# Altium footprint library PDB_footprints.PcbLib: 17 footprints (part 1 of 2)
Each footprint in its own frame and in the unit in brackets; x right, y up, seen from the top. Pads: shape width x height; smd on the part's side, far side on the other; paste and mask are expansions set on the pad; w line width, h text height; cw(c..) or ccw(c..) is an arc to the next point about the centre after c.
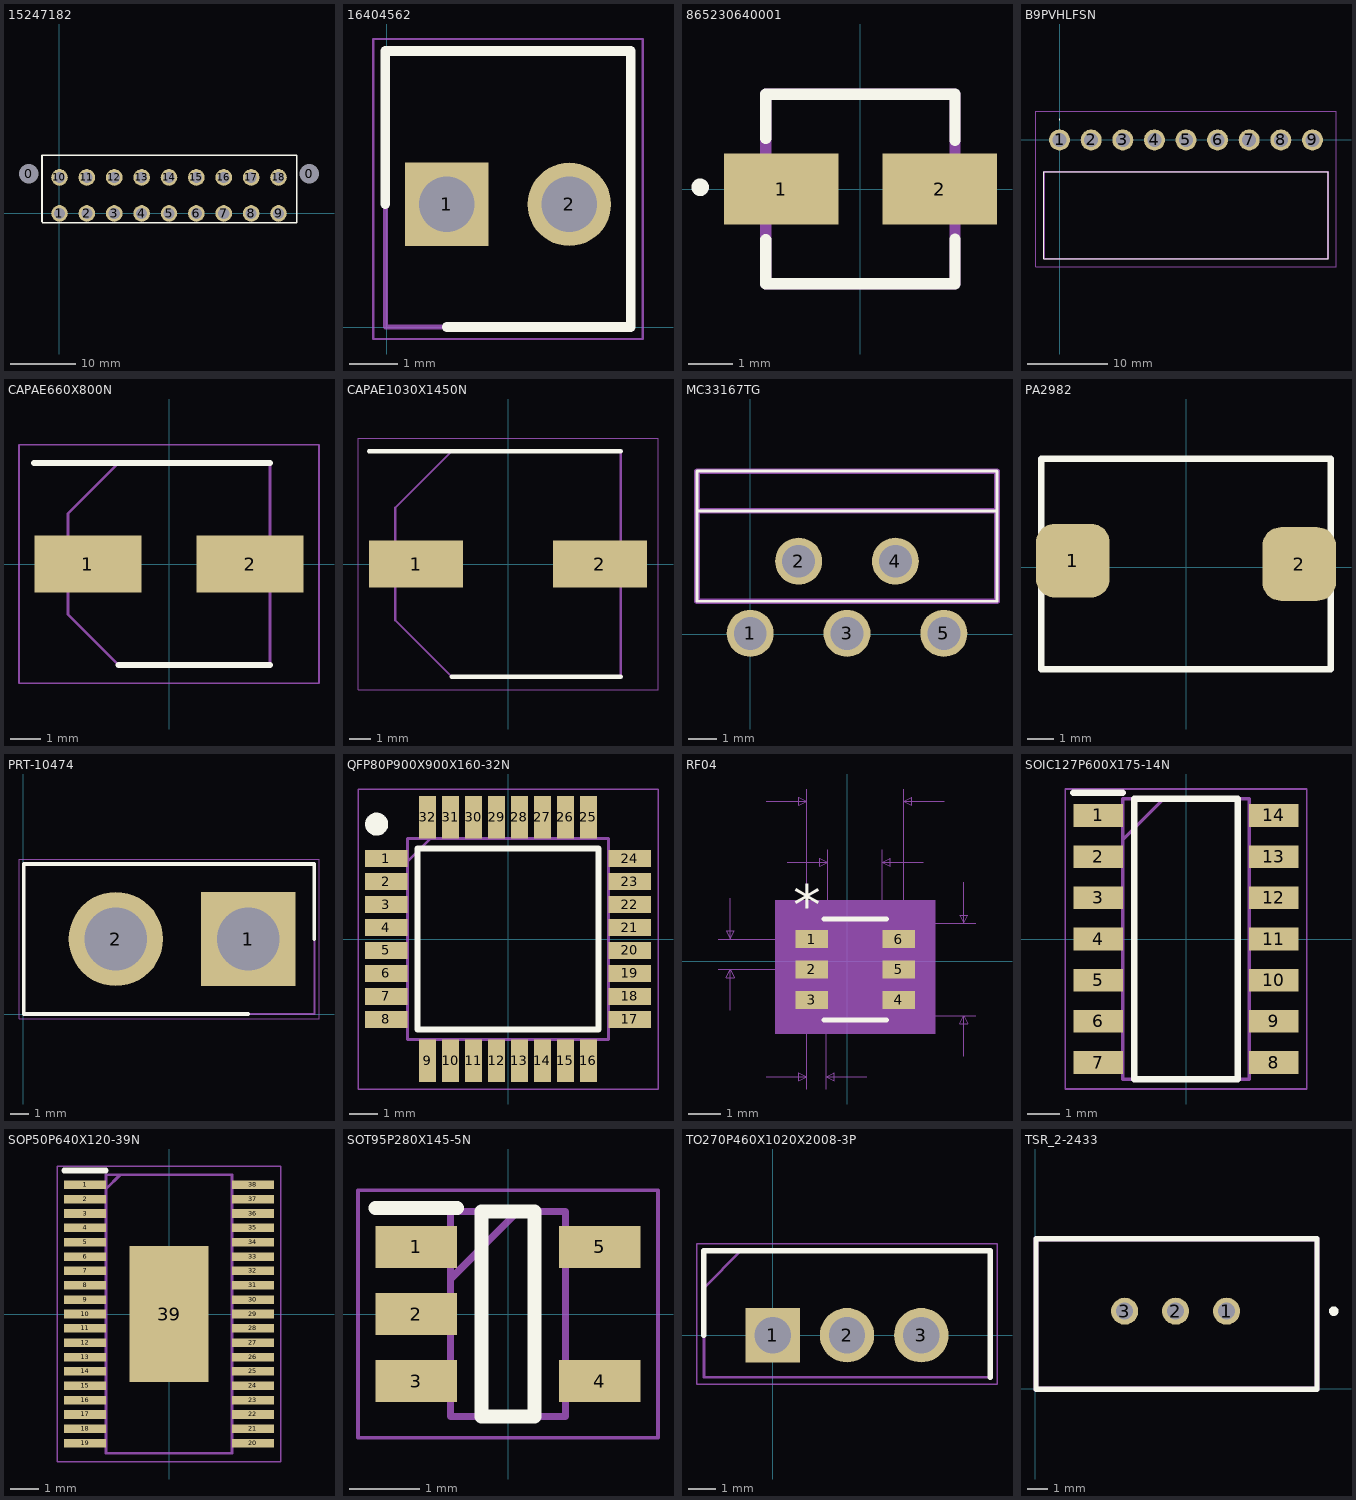
[diagram p0: the footprints below, top view; thin cyan lines are the x and y axes]

## 15247182 [mil]
pads (20):
  round 100 hole 118: 0(-185,239) 0(1505,239)
  round 100 hole 67: 1(0,0) 2(165,0) 3(330,0) 4(495,0) 5(660,0) 6(825,0) 7(990,0) 8(1155,0) 9(1320,0) 10(0,217) 11(165,217) 12(330,217) 13(495,217) 14(660,217) 15(825,217) 16(990,217) 17(1155,217) 18(1320,217)
Top Overlay:
  lines w10: -105,-50 -100,-55 278.75,-55 1046.25,-55 1430,-55 1430,350 -105,350 -105,-50
3D body "15247182.stp": height 450.39, standoff -133.46, extent -221.89,-42.95 1541.89,335

## 16404562 [mm]
pads (2):
  rect 1.725x1.725 hole 1.15: 1(1.245,2.552)
  round 1.725 hole 1.15: 2(3.785,2.552)
Top Overlay:
  lines w0.2: -0.025,2.552 -0.025,5.727 5.055,5.727 5.055,0.012 1.245,0.012
Mechanical 13:
  lines w0.1: -0.025,0.012 -0.025,5.727 5.055,5.727 5.055,0.012 -0.025,0.012
Mechanical 15:
  lines w0.05: -0.275,-0.238 -0.275,5.977 5.305,5.977 5.305,-0.238 -0.275,-0.238
3D body "640456-2.stp": height 10.03, standoff -3.56, extent 0.102,0.076 5.182,5.918

## 865230640001 [mm]
pads (2):
  rect 2.6x1.6 smd: 1(-1.8,0) 2(1.8,0)
Top Overlay:
  circle w0.254: c-3.637,0.039 r0.071
  lines w0.254: -2.15,-1.151 -2.15,-2.15 2.15,-2.15 2.15,-1.136 ; -2.15,1.143 -2.15,2.15 2.15,2.15 2.15,1.101
Mechanical 13:
  lines w0.254: -2.15,-2.15 2.15,-2.15 2.15,2.15 -2.15,2.15 -2.15,-2.15

## B9PVHLFSN [mm]
pads (9):
  round 2.625 hole 1.75: 1(0,0) 2(3.96,0) 3(7.92,0) 4(11.88,0) 5(15.84,0) 6(19.8,0) 7(23.76,0) 8(27.72,0) 9(31.68,0)
Top Overlay:
  lines w0.1: -1.95,-14.9 -1.95,-4 33.63,-4 33.63,-14.9 -1.95,-14.9 ; 0,2.5 cw(c0,2.55) 0,2.6 cw(c0,2.55) 0,2.5
Mechanical 13:
  lines w0.2: -1.95,-14.9 -1.95,-4 33.63,-4 33.63,-14.9 -1.95,-14.9
Mechanical 15:
  lines w0.1: -2.95,-15.9 -2.95,3.6 34.63,3.6 34.63,-15.9 -2.95,-15.9
3D body "B9P-VH_LF__SN_.stp": height 8.6, standoff -5, extent -1.915,-14.403 33.665,1.27

## CAPAE660X800N [mm]
pads (2):
  rect 3.5x1.85 smd: 1(-2.65,0) 2(2.65,0)
Top Overlay:
  lines w0.2: -4.4,3.3 3.3,3.3 ; -1.65,-3.3 3.3,-3.3
Mechanical 13:
  lines w0.1: -3.3,-1.65 -1.65,-3.3 3.3,-3.3 3.3,3.3 -1.65,3.3 -3.3,1.65 -3.3,-1.65
Mechanical 15:
  lines w0.05: -4.9,-3.9 -4.9,3.9 4.9,3.9 4.9,-3.9 -4.9,-3.9
3D body "UCV1V221MCL1GS.stp": height 8, standoff 0, extent -3.7,-3.4 3.7,3.4

## CAPAE1030X1450N [mm]
pads (2):
  rect 4.3x2.15 smd: 1(-4.2,0) 2(4.2,0)
Top Overlay:
  lines w0.2: -6.35,5.15 5.15,5.15 ; -2.575,-5.15 5.15,-5.15
Mechanical 13:
  lines w0.1: -5.15,-2.575 -2.575,-5.15 5.15,-5.15 5.15,5.15 -2.575,5.15 -5.15,2.575 -5.15,-2.575
Mechanical 15:
  lines w0.05: -6.85,-5.75 -6.85,5.75 6.85,5.75 6.85,-5.75 -6.85,-5.75
3D body "ULV2W7R5MNL1GS.stp": height 14.5, standoff 0, extent -5.65,-5.25 5.65,5.25

## MC33167TG [mm]
pads (5):
  round 1.65 hole 1.15: 1(-0.001,0.025) 2(1.701,2.565) 3(3.403,0.025) 4(5.105,2.565) 5(6.807,0.025)
Top Overlay:
  lines w0.1: -1.868,4.331 8.673,4.331 ; -1.868,1.156 8.673,1.156 8.673,5.728 -1.868,5.728 -1.868,1.156
Mechanical 13:
  lines w0.2: -1.868,4.331 8.673,4.331 ; -1.868,1.156 8.673,1.156 8.673,5.728 -1.868,5.728 -1.868,1.156

## PA2982 [mm]
pads (2):
  rrect50% 2.8x2.8 smd: 1(-4.3,0.254) 2(4.3,0.127)
Top Overlay:
  lines w0.254: 5.5,-3.873 5.5,4.127 ; 5.5,-3.873 -5.5,-3.873 -5.5,4.127 5.5,4.127 ; 5.5,-3.873 5.5,-3.873 ; 5.5,4.127 5.5,4.127

## PRT-10474 [mm]
pads (2):
  rect 5.1x5.1 hole 3.4: 1(12.18,4.077)
  round 5.1 hole 3.4: 2(5.016,4.077)
Top Overlay:
  lines w0.2: 12.18,0.013 0.026,0.013 0.026,8.141 15.762,8.141 15.762,4.077
Mechanical 13:
  lines w0.1: 0.026,0.013 15.762,0.013 15.762,8.141 0.026,8.141 0.026,0.013
Mechanical 15:
  lines w0.05: -0.223,-0.237 16.011,-0.237 16.011,8.391 -0.223,8.391 -0.223,-0.237
3D body "XT60 Female Connector.STEP": height 15.61, standoff -3.22, extent -0.078,0.018 15.857,8.146

## QFP80P900X900X160-32N [mm]
pads (32):
  rect 1.475x0.6 smd: 1(-4.238,2.8) 2(-4.238,2) 3(-4.238,1.2) 4(-4.238,0.4) 5(-4.238,-0.4) 6(-4.238,-1.2) 7(-4.238,-2) 8(-4.238,-2.8) 17(4.238,-2.8) 18(4.238,-2) 19(4.238,-1.2) 20(4.238,-0.4) 21(4.238,0.4) 22(4.238,1.2) 23(4.238,2) 24(4.238,2.8)
  rect 0.6x1.475 smd: 9(-2.8,-4.238) 10(-2,-4.238) 11(-1.2,-4.238) 12(-0.4,-4.238) 13(0.4,-4.238) 14(1.2,-4.238) 15(2,-4.238) 16(2.8,-4.238) 25(2.8,4.238) 26(2,4.238) 27(1.2,4.238) 28(0.4,4.238) 29(-0.4,4.238) 30(-1.2,4.238) 31(-2,4.238) 32(-2.8,4.238)
Top Overlay:
  circle w0.4: c-4.575,4 r0.2
  lines w0.2: -3.15,-3.15 -3.15,3.15 3.15,3.15 3.15,-3.15 -3.15,-3.15
Mechanical 13:
  lines w0.1: -3.5,2.7 -2.7,3.5 ; -3.5,-3.5 -3.5,3.5 3.5,3.5 3.5,-3.5 -3.5,-3.5
Mechanical 15:
  lines w0.05: -5.225,-5.225 -5.225,5.225 5.225,5.225 5.225,-5.225 -5.225,-5.225
3D body "TUSB2046IBVF.stp": height 1.6, standoff 0, extent -4.5,-4.5 4.5,4.5

## RF04 [mil]
pads (6):
  rect 40x22 smd paste+0 mask+0: 1(-43.5,27.4) 2(-43.5,-10) 3(-43.5,-47.4) 4(63.5,-47.4) 5(63.5,-10) 6(63.5,27.4)
Top Overlay:
  lines w6: -28.5,-72 48.5,-72 ; -28.5,52 48.5,52
  text "*" at -66,44.4 h50
Mechanical 5:
  region: 108.5,-89 -88.5,-89 -88.5,75 108.5,75
Mechanical 7:
  lines w1: -158.5,-10 -43.5,-10 ; -158.5,27.4 -43.5,27.4 ; -143.5,-60 -143.5,-10 ; -143.5,77.4 -143.5,27.4 ; -99.5,-142 -49.5,-142 ; -99.5,197 -49.5,197 ; -73.5,122 -23.5,122 ; -49.5,-157 -49.5,-10 -49.5,212 ; -25.5,-157 -25.5,-10 ; -23.5,-10 -23.5,137 ; 10,-67 158.5,-67 ; 10,47 158.5,47 ; 24.5,-142 -25.5,-142 ; 43.5,-10 43.5,137 ; 69.5,-10 69.5,212 ; 93.5,122 43.5,122 ; 119.5,197 69.5,197 ; 143.5,-117 143.5,-67 ; 143.5,97 143.5,47 ; -143.5,-10 -138.5,-20 -148.5,-20 -143.5,-10 ; -143.5,27.4 -138.5,37.4 -148.5,37.4 -143.5,27.4 ; -49.5,-142 -59.5,-147 -59.5,-137 -49.5,-142 ; -49.5,197 -59.5,192 -59.5,202 -49.5,197 ; -25.5,-142 -15.5,-147 -15.5,-137 -25.5,-142 ; -23.5,122 -33.5,117 -33.5,127 -23.5,122 ; 43.5,122 53.5,117 53.5,127 43.5,122 ; 69.5,197 79.5,192 79.5,202 69.5,197 ; 143.5,-67 148.5,-77 138.5,-77 143.5,-67 ; 143.5,47 148.5,57 138.5,57 143.5,47
  text "0.024in/0.61mm" at -125,-187 h25
  text "0.037in/0.95mm" at -338.5,-3.8 h25
  text "0.114in/2.896mm" at 163.5,-22.5 h25
  text "0.119in/3.023mm" at -83.75,217 h25
  text "0.067in/1.702mm" at -83.75,142 h25
  text "Alt 2 Padstyle: OX90Y60D30P" at -327.5,-567 h50
  text "Alt 1 Padstyle: OX60Y90D30P" at -327.5,-507 h50
  text "Pin One Padstyle: RX40Y22D0T" at -340,-327 h50
  text "Default Padstyle: RX40Y22D0T" at -340,-267 h50
Mechanical 13:
  lines w0: -2,47 ccw(c10,47) 22,47
  lines w1: -49.5,-57.4 -23.5,-57.4 -23.5,-37.4 -49.5,-37.4 -49.5,-57.4 ; -49.5,-20 -23.5,-20 -23.5,0 -49.5,0 -49.5,-20 ; -49.5,17.4 -23.5,17.4 -23.5,37.4 -49.5,37.4 -49.5,17.4 ; -23.5,-67 -23.5,47 43.5,47 43.5,-67 -23.5,-67 ; 43.5,-57.4 69.5,-57.4 69.5,-37.4 43.5,-37.4 43.5,-57.4 ; 43.5,-20 69.5,-20 69.5,0 43.5,0 43.5,-20 ; 43.5,17.4 69.5,17.4 69.5,37.4 43.5,37.4 43.5,17.4
  text "*" at -21,-6 h50
Mechanical 15:
  region: -33.5,-68.4 -73.5,-68.4 -73.5,48.4 -33.5,48.4 -33.5,57 53.5,57 53.5,48.4 93.5,48.4 93.5,-68.4 53.5,-68.4 53.5,-77 -33.5,-77
  lines w6: -73.5,-68.4 -33.5,-68.4 -33.5,-77 53.5,-77 53.5,-68.4 93.5,-68.4 93.5,48.4 53.5,48.4 53.5,57 -33.5,57 -33.5,48.4 -73.5,48.4 -73.5,-68.4
3D body: height 10, standoff 0, extent 10,-10 20,0

## SOIC127P600X175-14N [mm]
pads (14):
  rect 1.525x0.7 smd: 1(-2.712,3.81) 2(-2.712,2.54) 3(-2.712,1.27) 4(-2.712,0) 5(-2.712,-1.27) 6(-2.712,-2.54) 7(-2.712,-3.81) 8(2.712,-3.81) 9(2.712,-2.54) 10(2.712,-1.27) 11(2.712,0) 12(2.712,1.27) 13(2.712,2.54) 14(2.712,3.81)
Top Overlay:
  lines w0.2: -3.475,4.51 -1.95,4.51 ; -1.6,-4.325 1.6,-4.325 1.6,4.325 -1.6,4.325 -1.6,-4.325
Mechanical 13:
  lines w0.1: -1.95,3.055 -0.68,4.325 ; -1.95,-4.325 1.95,-4.325 1.95,4.325 -1.95,4.325 -1.95,-4.325
Mechanical 15:
  lines w0.05: -3.725,-4.625 3.725,-4.625 3.725,4.625 -3.725,4.625 -3.725,-4.625
3D body "ATTINY214-SSNR.stp": height 1.75, standoff 0, extent -3,-4.325 3,4.325

## SOP50P640X120-39N [mm]
pads (39):
  rect 1.45x0.3 smd: 1(-2.925,4.5) 2(-2.925,4) 3(-2.925,3.5) 4(-2.925,3) 5(-2.925,2.5) 6(-2.925,2) 7(-2.925,1.5) 8(-2.925,1) 9(-2.925,0.5) 10(-2.925,0) 11(-2.925,-0.5) 12(-2.925,-1) 13(-2.925,-1.5) 14(-2.925,-2) 15(-2.925,-2.5) 16(-2.925,-3) 17(-2.925,-3.5) 18(-2.925,-4) 19(-2.925,-4.5) 20(2.925,-4.5) 21(2.925,-4) 22(2.925,-3.5) 23(2.925,-3) 24(2.925,-2.5) 25(2.925,-2) 26(2.925,-1.5) 27(2.925,-1) 28(2.925,-0.5) 29(2.925,0) 30(2.925,0.5) 31(2.925,1) 32(2.925,1.5) 33(2.925,2) 34(2.925,2.5) 35(2.925,3) 36(2.925,3.5) 37(2.925,4) 38(2.925,4.5)
  rect 2.74x4.75 smd: 39(0,0)
Top Overlay:
  lines w0.2: -3.65,5 -2.2,5
Mechanical 13:
  lines w0.1: -2.2,4.35 -1.7,4.85 ; -2.2,-4.85 -2.2,4.85 2.2,4.85 2.2,-4.85 -2.2,-4.85
Mechanical 15:
  lines w0.05: -3.9,-5.15 -3.9,5.15 3.9,5.15 3.9,-5.15 -3.9,-5.15
3D body "LTC3779HFE#PBF.stp": height 1.2, standoff 0, extent -3.2,-4.85 3.2,4.85

## SOT95P280X145-5N [mm]
pads (5):
  rect 1.15x0.6 smd: 1(-1.3,0.95) 2(-1.3,0) 3(-1.3,-0.95) 4(1.3,-0.95) 5(1.3,0.95)
Top Overlay:
  lines w0.2: -1.875,1.5 -0.725,1.5 ; -0.375,-1.45 -0.375,1.45 0.375,1.45 0.375,-1.45 -0.375,-1.45
Mechanical 13:
  lines w0.1: -0.812,0.5 0.138,1.45 ; -0.812,-1.45 -0.812,1.45 0.812,1.45 0.812,-1.45 -0.812,-1.45
Mechanical 15:
  lines w0.05: -2.125,-1.75 -2.125,1.75 2.125,1.75 2.125,-1.75 -2.125,-1.75
3D body "LMV331ILT.stp": height 1.45, standoff 0, extent -1.4,-1.45 1.4,1.45

## TO270P460X1020X2008-3P [mm]
pads (3):
  rect 1.98x1.98 hole 1.32: 1(0,0)
  round 1.98 hole 1.32: 2(2.7,0) 3(5.4,0)
Top Overlay:
  lines w0.2: -2.5,0 -2.5,3.07 7.9,3.07 7.9,-1.53
Mechanical 13:
  lines w0.1: -2.5,1.72 -1.15,3.07 ; -2.5,-1.53 7.9,-1.53 7.9,3.07 -2.5,3.07 -2.5,-1.53
Mechanical 15:
  lines w0.05: -2.75,-1.78 8.15,-1.78 8.15,3.32 -2.75,3.32 -2.75,-1.78
3D body "L78S18CV.stp": height 19.22, standoff -18.2, extent -2.4,-1.53 7.8,3.07

## TSR_2-2433 [mm]
pads (3):
  round 1.35 hole 0.85: 1(9.525,3.873) 2(6.985,3.873) 3(4.445,3.873)
Top Overlay:
  circle w0.254: c14.867,3.879 r0.113
  lines w0.254: 0.025,-0.017 14.025,-0.017 14.025,7.483 0.025,7.483 0.025,-0.017
Mechanical 13:
  lines w0.254: 0.025,-0.017 14.025,-0.017 14.025,7.483 0.025,7.483 0.025,-0.017
3D body: height 12.7, standoff 0, extent 0.026,-0.016 14.024,7.482